# EAGLE library part 0526100872 (library ruark2)
8 Position FPC Connector Contacts, Vertical - 1 Sided 0.039" (1.00mm) Surface Mount
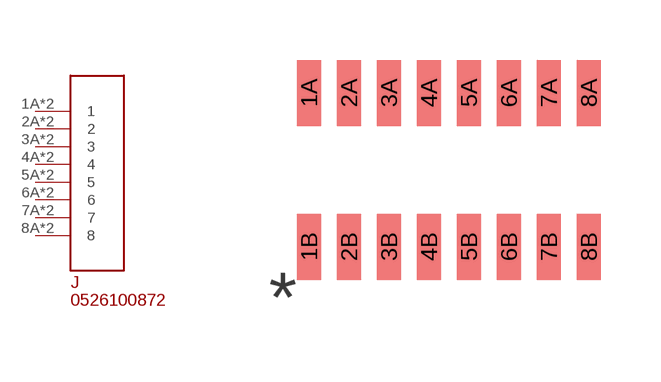
[diagram p93: symbol with the pads of 0526100872; footprint 0526100872]

Designator prefix J

## 0526100872 (PARTNO: WM6761CT-ND)  [0526100872]
1A  1
1B  1
2A  2
2B  2
3A  3
3B  3
4A  4
4B  4
5A  5
5B  5
6A  6
6B  6
7A  7
7B  7
8A  8
8B  8

## Footprint 0526100872 (pad centres in mm)
smd 0.6 x 1.65: 1A -3.5,1.925; 1B -3.5,-1.925; 2A -2.5,1.925; 2B -2.5,-1.925; 3A -1.5,1.925; 3B -1.5,-1.925; 4A -0.5,1.925; 4B -0.5,-1.925; 5A 0.5,1.925; 5B 0.5,-1.925; 6A 1.5,1.925; 6B 1.5,-1.925; 7A 2.5,1.925; 7B 2.5,-1.925; 8A 3.5,1.925; 8B 3.5,-1.925